# Altium schematic symbol library TEA2209T_1J.SchLib: 1 symbol
Pins are listed as number, name and electrical type; pins without a type are passive.

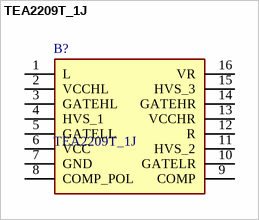
[diagram p0: symbol TEA2209T_1J]

## TEA2209T_1J
designator B?
Bridge Rectifiers TEA2209T; Manufacturer_Name: NXP; Manufacturer_Part_Number: TEA2209T/1J; Geometry.Height: 1.75mm; Mouser Part Number: *; Mouser Price/Stock: *; Datasheet Link: https://www.nxp.com/docs/en/data-sheet/TEA2209T.pdf
footprint SOIC127P600X175-16N
pins: 1 L, 2 VCCHL, 3 GATEHL, 4 HVS_1, 5 GATELL, 6 VCC, 7 GND, 8 COMP_POL, 9 COMP, 10 GATELR, 11 HVS_2, 12 R, 13 VCCHR, 14 GATEHR, 15 HVS_3, 16 VR